# Altium footprint library HC49.PcbLib: 3 footprints
Each footprint in its own frame and in the unit in brackets; x right, y up, seen from the top. Pads: shape width x height; smd on the part's side, far side on the other; paste and mask are expansions set on the pad; w line width, h text height; cw(c..) or ccw(c..) is an arc to the next point about the centre after c.
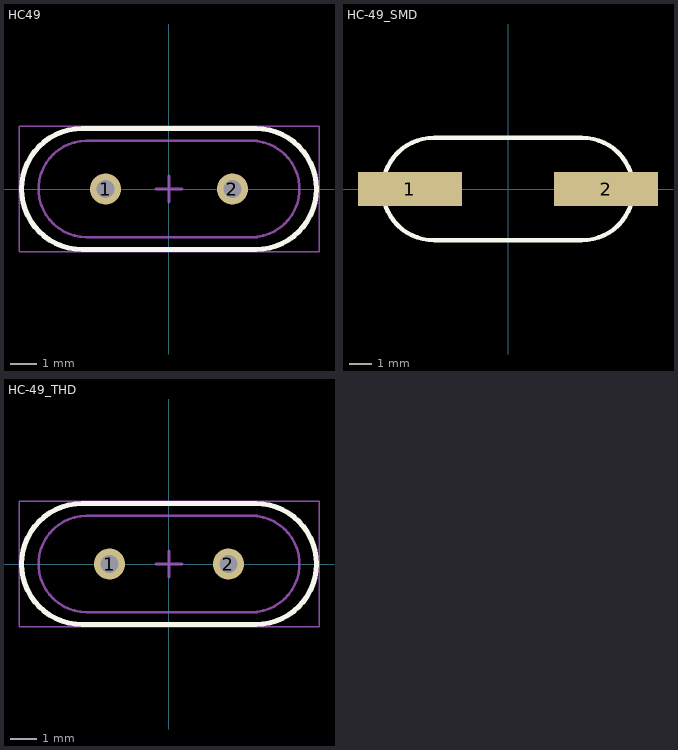
[diagram p0: the footprints below, top view; thin cyan lines are the x and y axes]

## HC49 [mm]
pads (2):
  round 1.2 hole 0.7: 1(-2.44,0) 2(2.44,0)
Top Overlay:
  lines w0.2: -3.35,-2.325 cw(c-3.35,0) -3.35,2.325 3.35,2.325 cw(c3.35,0) 3.35,-2.325 -3.35,-2.325
Mechanical 13:
  lines w0.1: 3.175,-1.85 ccw(c3.175,0) 3.175,1.85 ; 3.4,-1.85 -3.175,-1.85 cw(c-3.175,0) -3.175,1.85 3.4,1.85 ; -3.35,-2.325 cw(c-3.35,0) -3.35,2.325 3.35,2.325 cw(c3.35,0) 3.35,-2.325 -3.35,-2.325
Mechanical 15:
  lines w0.05: -5.775,-2.424 5.775,-2.424 5.775,2.425 -5.775,2.424 -5.775,-2.424
  lines w0.1: -0.5,0 0.5,0 ; 0,-0.5 0,0.5
3D body: height 3.6, standoff 0.5, extent -3.175,-1.85 3.175,1.85
3D body: height 3.6, standoff 0.5, extent 1.325,-1.85 5.025,1.85
3D body: height 3.6, standoff 0.5, extent -5.025,-1.849 -1.325,1.85
3D body: height 0.5, standoff 0, extent -3.35,-2.325 3.35,2.325
3D body: height 0.5, standoff 0, extent 1.025,-2.324 5.675,2.325
3D body: height 0.5, standoff 0, extent -5.675,-2.324 -1.025,2.324

## HC-49_SMD [mm]
pads (2):
  rect 4.7x1.524 smd: 1(-4.445,0) 2(4.445,0)
Top Overlay:
  lines w0.2: -3.35,-2.325 cw(c-3.35,0) -3.35,2.325 3.35,2.325 cw(c3.35,0) 3.35,-2.325 -3.35,-2.325
3D body "Кристалл 4096 М49 SMD.STEP": height 3.55, standoff 0, extent -6.25,-2.225 6.25,2.225

## HC-49_THD [mm]
pads (2):
  round 1.2 hole 0.7: 1(-2.286,0) 2(2.286,0)
Top Overlay:
  lines w0.2: -3.35,-2.325 cw(c-3.35,0) -3.35,2.325 3.35,2.325 cw(c3.35,0) 3.35,-2.325 -3.35,-2.325
Mechanical 13:
  lines w0.1: 3.175,-1.85 ccw(c3.175,0) 3.175,1.85 ; 3.4,-1.85 -3.175,-1.85 cw(c-3.175,0) -3.175,1.85 3.4,1.85 ; -3.35,-2.325 cw(c-3.35,0) -3.35,2.325 3.35,2.325 cw(c3.35,0) 3.35,-2.325 -3.35,-2.325
Mechanical 15:
  lines w0.05: -5.775,-2.424 5.775,-2.424 5.775,2.425 -5.775,2.424 -5.775,-2.424
  lines w0.1: -0.5,0 0.5,0 ; 0,-0.5 0,0.5
3D body "Кристалл 4096 М49 THD.STEP": height 3.06, standoff -5.23, extent -5.688,-2.225 5.688,2.225